# EAGLE library part MINI8086_EDGE (library con-mini8086)
Mini8086 slot connector
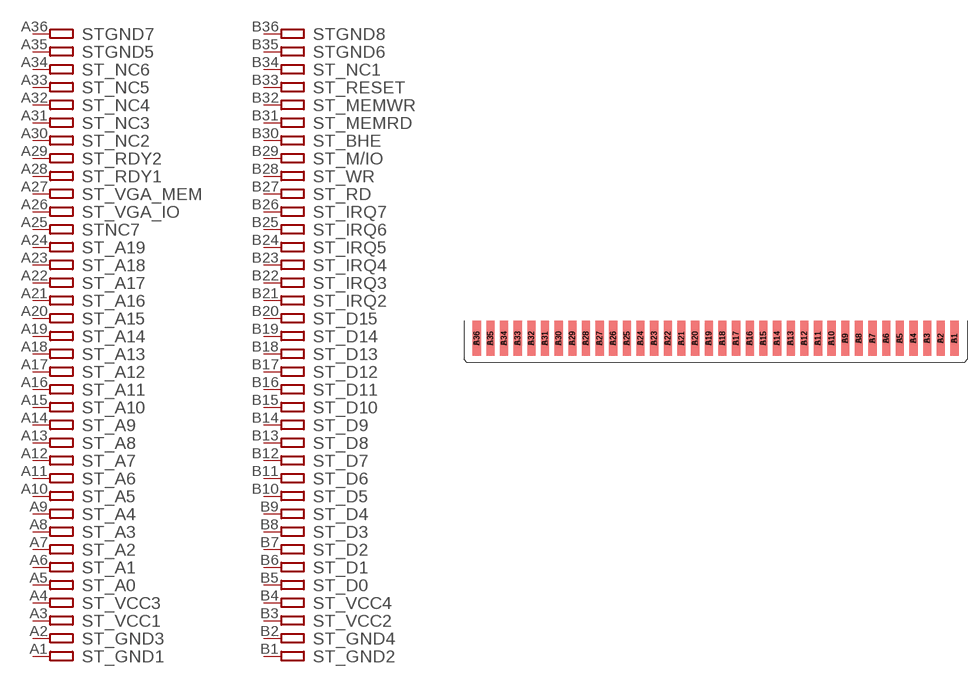
[diagram p0: symbol with the pads of MINI8086_CON; footprint MINI8086_CON]

Designator prefix ST; gates _GND1=ATPIN _GND3=ATPIN _VCC1=ATPIN _VCC3=ATPIN _A0=ATPIN _A1=ATPIN _A2=ATPIN _A3=ATPIN _A4=ATPIN _A5=ATPIN _A6=ATPIN _A7=ATPIN _A8=ATPIN _A9=ATPIN _A10=ATPIN _A11=ATPIN _A12=ATPIN _A13=ATPIN _A14=ATPIN _A15=ATPIN _A16=ATPIN _A17=ATPIN _A18=ATPIN _A19=ATPIN NC7=ATPIN _VGA_IO=ATPIN _VGA_MEM=ATPIN _RDY1=ATPIN _RDY2=ATPIN _NC2=ATPIN _NC3=ATPIN _GND2=ATPIN _GND4=ATPIN _VCC2=ATPIN _VCC4=ATPIN _D0=ATPIN _D1=ATPIN _D2=ATPIN _D3=ATPIN _D4=ATPIN _D5=ATPIN _D6=ATPIN _D7=ATPIN _D8=ATPIN _D9=ATPIN _D10=ATPIN _D11=ATPIN _D12=ATPIN _D13=ATPIN _D14=ATPIN _D15=ATPIN _IRQ2=ATPIN _IRQ3=ATPIN _IRQ4=ATPIN _IRQ5=ATPIN _IRQ6=ATPIN _IRQ7=ATPIN _RD=ATPIN _WR=ATPIN _M/IO=ATPIN _BHE=ATPIN _MEMRD=ATPIN _NC4=ATPIN _NC5=ATPIN _NC6=ATPIN GND5=ATPIN GND7=ATPIN _MEMWR=ATPIN _RESET=ATPIN _NC1=ATPIN GND6=ATPIN GND8=ATPIN

## MINI8086_EDGE  [MINI8086_CON]
A1  _GND1:P
A2  _GND3:P
A3  _VCC1:P
A4  _VCC3:P
A5  _A0:P
A6  _A1:P
A7  _A2:P
A8  _A3:P
A9  _A4:P
A10  _A5:P
A11  _A6:P
A12  _A7:P
A13  _A8:P
A14  _A9:P
A15  _A10:P
A16  _A11:P
A17  _A12:P
A18  _A13:P
A19  _A14:P
A20  _A15:P
A21  _A16:P
A22  _A17:P
A23  _A18:P
A24  _A19:P
A25  NC7:P
A26  _VGA_IO:P
A27  _VGA_MEM:P
A28  _RDY1:P
A29  _RDY2:P
A30  _NC2:P
A31  _NC3:P
A32  _NC4:P
A33  _NC5:P
A34  _NC6:P
A35  GND5:P
A36  GND7:P
B1  _GND2:P
B2  _GND4:P
B3  _VCC2:P
B4  _VCC4:P
B5  _D0:P
B6  _D1:P
B7  _D2:P
B8  _D3:P
B9  _D4:P
B10  _D5:P
B11  _D6:P
B12  _D7:P
B13  _D8:P
B14  _D9:P
B15  _D10:P
B16  _D11:P
B17  _D12:P
B18  _D13:P
B19  _D14:P
B20  _D15:P
B21  _IRQ2:P
B22  _IRQ3:P
B23  _IRQ4:P
B24  _IRQ5:P
B25  _IRQ6:P
B26  _IRQ7:P
B27  _RD:P
B28  _WR:P
B29  _M/IO:P
B30  _BHE:P
B31  _MEMRD:P
B32  _MEMWR:P
B33  _RESET:P
B34  _NC1:P
B35  GND6:P
B36  GND8:P

## Footprint MINI8086_CON (pad centres in mm)
Mini8086 edge connector
smd 1.524 x 6.477: A1 -5.08,5.08; A2 -7.62,5.08; A3 -10.16,5.08; A4 -12.7,5.08; A5 -15.24,5.08; A6 -17.78,5.08; A7 -20.32,5.08; A8 -22.86,5.08; A9 -25.4,5.08; A10 -27.94,5.08; A11 -30.48,5.08; A12 -33.02,5.08; A13 -35.56,5.08; A14 -38.1,5.08; A15 -40.64,5.08; A16 -43.18,5.08; A17 -45.72,5.08; A18 -48.26,5.08; A19 -50.8,5.08; A20 -53.34,5.08; A21 -55.88,5.08; A22 -58.42,5.08; A23 -60.96,5.08; A24 -63.5,5.08; A25 -66.04,5.08; A26 -68.58,5.08; A27 -71.12,5.08; A28 -73.66,5.08; A29 -76.2,5.08; A30 -78.74,5.08; A31 -81.28,5.08; A32 -83.82,5.08; A33 -86.36,5.08; A34 -88.9,5.08; A35 -91.44,5.08; A36 -93.98,5.08
smd 1.524 x 6.477 bottom: B1 -5.08,5.08; B2 -7.62,5.08; B3 -10.16,5.08; B4 -12.7,5.08; B5 -15.24,5.08; B6 -17.78,5.08; B7 -20.32,5.08; B8 -22.86,5.08; B9 -25.4,5.08; B10 -27.94,5.08; B11 -30.48,5.08; B12 -33.02,5.08; B13 -35.56,5.08; B14 -38.1,5.08; B15 -40.64,5.08; B16 -43.18,5.08; B17 -45.72,5.08; B18 -48.26,5.08; B19 -50.8,5.08; B20 -53.34,5.08; B21 -55.88,5.08; B22 -58.42,5.08; B23 -60.96,5.08; B24 -63.5,5.08; B25 -66.04,5.08; B26 -68.58,5.08; B27 -71.12,5.08; B28 -73.66,5.08; B29 -76.2,5.08; B30 -78.74,5.08; B31 -81.28,5.08; B32 -83.82,5.08; B33 -86.36,5.08; B34 -88.9,5.08; B35 -91.44,5.08; B36 -93.98,5.08